# Altium footprint library PcbLib1.PcbLib: 24 footprints (part 1 of 2)
Each footprint in its own frame and in the unit in brackets; x right, y up, seen from the top. Pads: shape width x height; smd on the part's side, far side on the other; paste and mask are expansions set on the pad; w line width, h text height; cw(c..) or ccw(c..) is an arc to the next point about the centre after c.
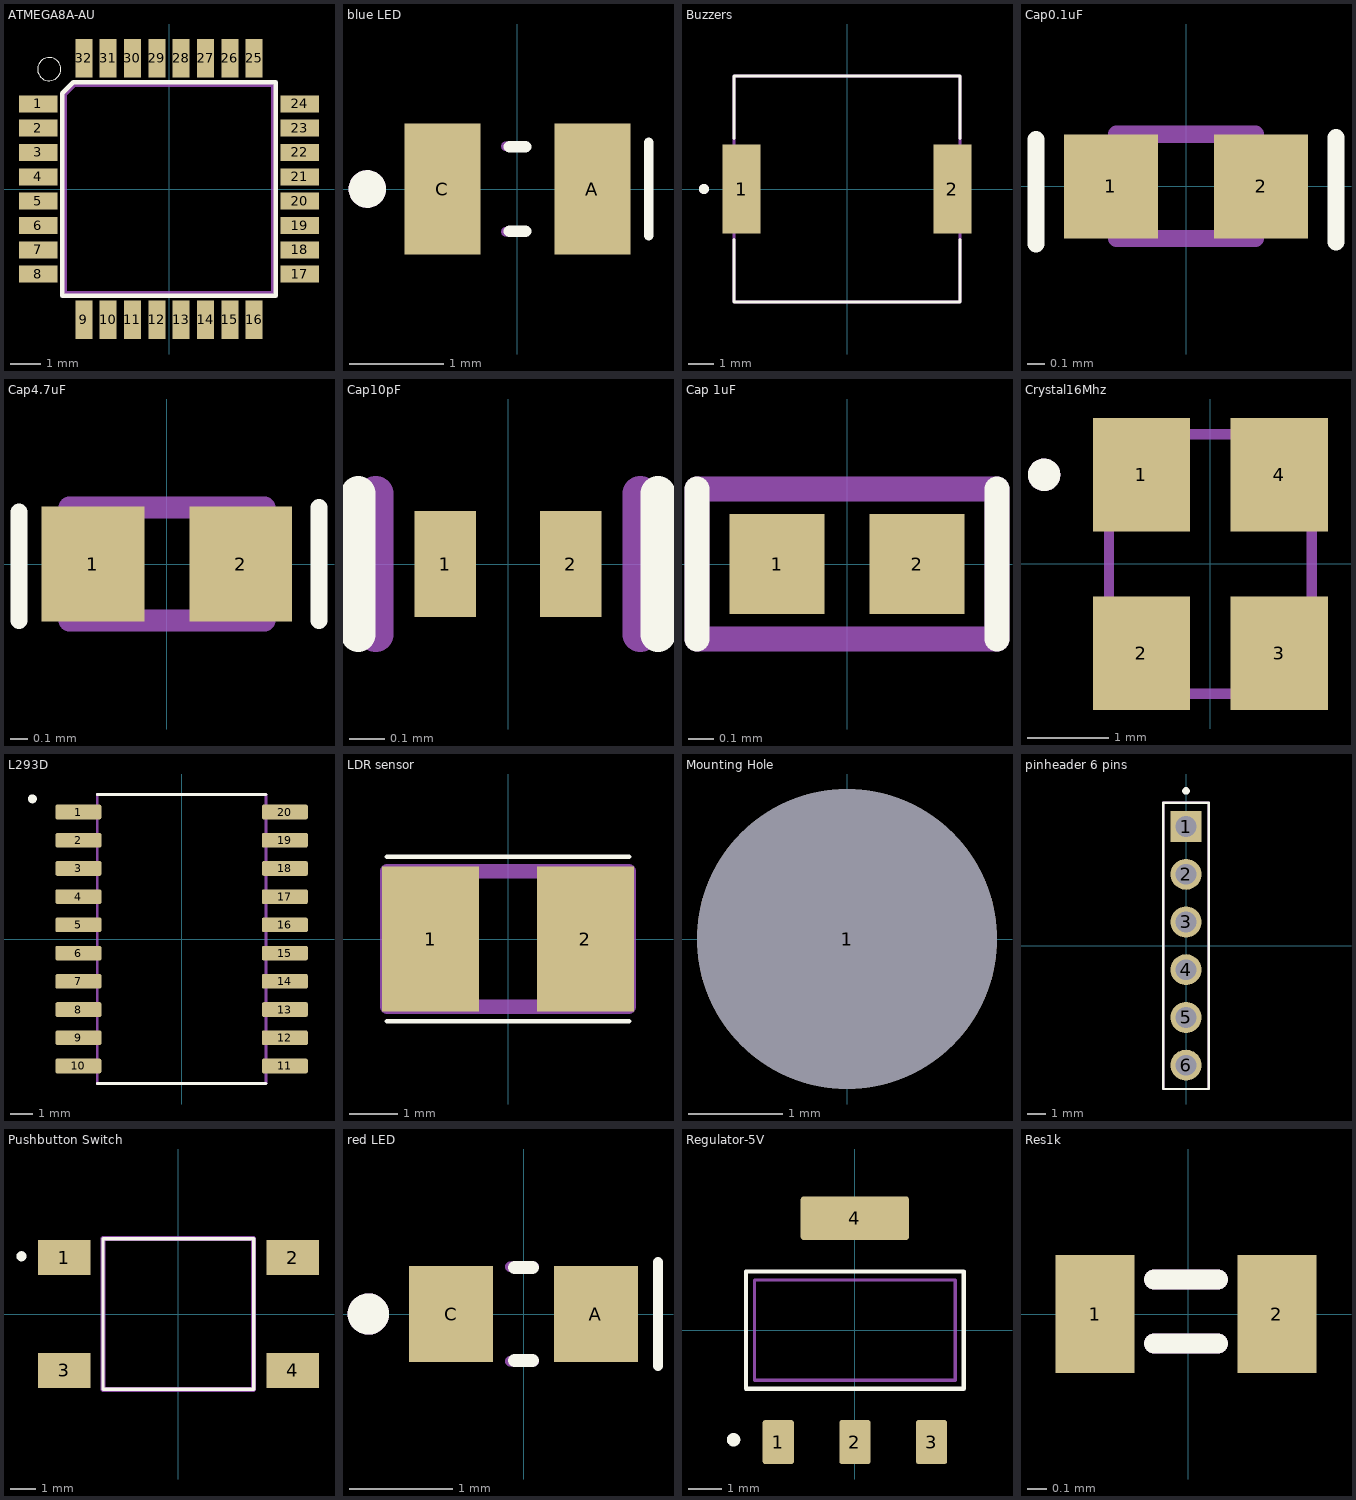
[diagram p0: the footprints below, top view; thin cyan lines are the x and y axes]

## ATMEGA8A-AU [mil] "8KB 1KB FLASH 23 2.7V~5.5V AVR 16MHz TQFP-32(7x7) Microcontrollers (MCU/MPU/SOC) ROHS"
pads (32):
  rect 50x22 smd: 1(-169,110.24) 2(-169,78.74) 3(-169,47.24) 4(-169,15.75) 5(-169,-15.75) 6(-169,-47.24) 7(-169,-78.74) 8(-169,-110.24) 17(169,-110.24) 18(169,-78.74) 19(169,-47.24) 20(169,-15.75) 21(169,15.75) 22(169,47.24) 23(169,78.74) 24(169,110.24)
  rect 22x50 smd: 9(-110.24,-169) 10(-78.74,-169) 11(-47.24,-169) 12(-15.75,-169) 13(15.75,-169) 14(47.24,-169) 15(78.74,-169) 16(110.24,-169) 25(110.24,169) 26(78.74,169) 27(47.24,169) 28(15.75,169) 29(-15.75,169) 30(-47.24,169) 31(-78.74,169) 32(-110.24,169)
Top Overlay:
  circle w0: c-155,155 r15
  lines w6: -137.99,-137.99 137.99,-137.99 137.99,137.99 -124.02,137.99 -137.99,124.02 -137.99,-137.99
  text ".Designator" at -123,208.39 h39.37
Mechanical29 (Mech29):
  lines w3.94: -133.86,-133.86 133.86,-133.86 133.86,133.86 -122.05,133.86 -133.86,122.05 -133.86,-133.86
  text ".Designator" at -96,199.39 h39.37
3D body "ATMEGA8A-AU.STEP": height 47.24, standoff 0, extent -177.17,-177.17 177.17,177.17

## blue LED [mm] "20mA 104mcd Colorless transparent lens -20℃~+80℃ 465nm~475nm Blue 130° 76mW 3.3V 0805 LED Indication - Discrete ROHS"
height 9.78
pads (2):
  rect 0.81x1.397 smd: A(0.8,0) C(-0.8,0)
Top Overlay:
  circle w0.2: c-1.6,0 r0.1
  lines w0.1: 1.4,-0.5 1.4,0.5
  lines w0.127: -0.085,-0.45 0.085,-0.45 ; -0.085,0.45 0.085,0.45
  text ".Designator" at -1.4,1.012 h0.6
Mechanical29 (Mech29):
  circle w0.2: c-1.6,0 r0.1
  lines w0.1: -0.127,-0.457 0.076,-0.457 ; -0.127,0.457 0.076,0.457
  text ".Designator" at -1.1,0.812 h0.6
3D body "blueLED_LTST-C170TBKT.STEP": height 1.1, standoff 0, extent -1,-0.625 1,0.625

## Buzzers [mil] "65dB Passive (external drive) Piezoelectric 4kHz Buzzers ROHS"
height 385.04
pads (2):
  rect 60x140 smd: 1(-165.35,0) 2(165.35,0)
Top Overlay:
  circle w7.87: c-224.41,0 r3.94
  lines w5: -177.17,-79.53 -177.17,-177.17 177.17,-177.17 177.17,-79.53 ; -177.17,79.53 -177.17,177.17 177.17,177.17 177.17,79.53
  text ".Designator" at -169.29,204 h59.06
Mechanical29 (Mech29):
  circle w7.87: c-224.41,0 r3.94
  lines w5: -177.17,-177.17 177.17,-177.17 177.17,177.17 -177.17,177.17 -177.17,-177.17
  text ".Designator" at -137.8,188.25 h59.06
3D body "Buzzers_PKMCS0909E4000-R1--3DModel-STEP-56544.STEP": height 74.8, standoff 0, extent -177.17,-177.17 177.17,177.17

## Cap0.1uF [mm] "50V 100nF X7R ±10% 0402 Multilayer Ceramic Capacitors MLCC - SMD/SMT ROHS"
pads (2):
  rect 0.54x0.6 smd: 1(-0.432,0) 2(0.432,0)
Top Overlay:
  lines w0.1: -0.864,-0.33 -0.864,0.27 ; 0.864,-0.321 0.864,0.279
  text ".Designator" at -0.825,0.569 h0.5
Mechanical29 (Mech29):
  lines w0.1: -0.4,-0.3 -0.4,0.3 0.4,0.3 0.4,-0.3 -0.4,-0.3
  text ".Designator" at -0.7,0.469 h0.5
3D body "step_temp.STEP": height 0.55, standoff 0, extent -0.5,-0.25 0.5,0.25

## Cap4.7uF [mm] "10V 4.7uF X5R ±20% 0402 Multilayer Ceramic Capacitors MLCC - SMD/SMT ROHS"
height 9.78
pads (2):
  rect 0.6x0.67 smd: 1(-0.432,0) 2(0.432,0)
Top Overlay:
  lines w0.1: -0.864,-0.33 -0.864,0.305 ; 0.889,-0.33 0.889,0.33
  text ".Designator" at -0.838,0.603 h0.51
Mechanical29 (Mech29):
  lines w0.127: -0.57,-0.33 -0.57,0.33 0.57,0.33 0.57,-0.33 -0.57,-0.33
  text ".Designator" at -0.57,0.425 h0.51
3D body "Cap4.7uF_GRM155R61A475MEAAD.STEP": height 0.65, standoff 0, extent -0.5,-0.25 0.5,0.25

## Cap10pF [mm] "16V 10pF null ±5% 01005 Multilayer Ceramic Capacitors MLCC - SMD/SMT ROHS"
pads (2):
  rect 0.175x0.3 smd mask+0.038: 1(-0.178,0) 2(0.178,0)
Top Overlay:
  lines w0.1: -0.425,-0.2 -0.425,0.2 ; 0.425,-0.2 0.425,0.2
  text ".Designator" at -0.475,0.394 h0.5
Mechanical29 (Mech29):
  lines w0.1: -0.375,-0.2 -0.375,0.2 ; 0.375,-0.2 0.375,0.2
  text ".Designator" at -0.3,0.294 h0.5
3D body "Cap10pF_GRM0225C1C100JA03L.STEP": height 0.22, standoff 0, extent -0.2,-0.1 0.2,0.1

## Cap 1uF [mm] "10V 1uF X5R ±20% 0201 Multilayer Ceramic Capacitors MLCC - SMD/SMT ROHS"
height 9.78
pads (2):
  rect 0.38x0.4 smd: 1(-0.28,0) 2(0.28,0)
Top Overlay:
  lines w0.1: -0.6,-0.3 -0.6,0.3 ; 0.6,-0.3 0.6,0.3
  text ".Designator" at -0.635,0.603 h0.51
Mechanical29 (Mech29):
  lines w0.1: -0.6,-0.3 -0.6,0.3 0.6,0.3 0.6,-0.3 -0.6,-0.3
  text ".Designator" at -0.6,0.395 h0.51
3D body "Cap1uF_GRM033R61A105ME44D.STEP": height 0.35, standoff 0, extent -0.3,-0.15 0.3,0.15

## Crystal16Mhz [mm] "1.8V~3.3V ±10ppm ±20ppm CMOS 16MHz SMD3225-4P Crystal Oscillators ROHS"
pads (4):
  rect 1.2x1.4 smd: 1(-0.85,1.1) 2(-0.85,-1.1) 3(0.85,-1.1) 4(0.85,1.1)
Top Overlay:
  circle w0.2: c-2.05,1.1 r0.1
  text ".Designator" at -1.425,2.169 h0.5
Mechanical29 (Mech29):
  circle w0.2: c-2.05,1.1 r0.1
  lines w0.127: -1.25,-1.6 -1.25,1.6 1.25,1.6 1.25,-1.6 -1.25,-1.6
  text ".Designator" at -1.295,1.999 h0.5
3D body "crystal16Mhz_X322516MLB4SI--3DModel-STEP-269445.STEP": height 0.8, standoff 0, extent -1.25,-1.6 1.25,1.6

## L293D [mm] "SOIC-20-300mil Stepper Motor Driver ROHS"
height 9.78
pads (20):
  rrect25% 2.07x0.66 smd: 1(-4.645,5.715) 2(-4.645,4.445) 3(-4.645,3.175) 4(-4.645,1.905) 5(-4.645,0.635) 6(-4.645,-0.635) 7(-4.645,-1.905) 8(-4.645,-3.175) 9(-4.645,-4.445) 10(-4.645,-5.715) 11(4.645,-5.715) 12(4.645,-4.445) 13(4.645,-3.175) 14(4.645,-1.905) 15(4.645,-0.635) 16(4.645,0.635) 17(4.645,1.905) 18(4.645,3.175) 19(4.645,4.445) 20(4.645,5.715)
Top Overlay:
  circle w0.2: c-6.715,6.305 r0.1
  lines w0.127: -3.8,-6.5 3.8,-6.5 ; -3.8,6.5 3.8,6.5
  text ".Designator" at -3.9,7.782 h1.5
Mechanical29 (Mech29):
  lines w0.127: -3.8,-6.5 -3.8,6.5 3.8,6.5 3.8,-6.5 -3.8,-6.5
  text ".Designator" at -3.505,6.86 h1.5
3D body "SO-20_STM.step": height 2.64, standoff 0, extent -5.321,-6.502 5.321,6.502

## LDR sensor [mm] "SMD,2.4x3.6mm Photoresistors ROHS"
pads (2):
  rect 2x3 smd: 1(-1.6,0) 2(1.6,0)
Top Overlay:
  lines w0.1: -2.5,-1.7 2.5,-1.7 ; -2.5,1.7 2.5,1.7
  text ".Designator" at -2.3,2.095 h0.51
Mechanical29 (Mech29):
  lines w0.3: -2.5,-1.4 2.5,-1.4 2.5,1.4 -2.5,1.4 -2.5,-1.4
  text ".Designator" at -1.9,1.895 h0.51
3D body "GT36528_JCH.step": height 0.66, standoff 0, extent -1.905,-1.295 1.905,1.295

## Mounting Hole [mm] "mounting hole 3.2mm inner diameter and 5.6mm outer"
pads (1):
  round 3.2 hole 3.2 paste-2539.97 mask-2539.97: 1(0,0)
Top Solder:
  lines w0.559: -0.356,0 0.356,0
Bottom Solder:
  lines w0.559: -0.356,0 0.356,0

## pinheader 6 pins [mm] "3A Direct Insert Policy 2.54mm 6P 5.84mm -65℃~+125℃ 3.05mm 2.54mm Single Row Phosphor Bronze Black Plugin,P=2.54mm Pin Headers ROHS"
height 8.58
pads (6):
  rect 1.65x1.65 / inner round 1.65 / far side rect 1.65x1.65 hole 1.1: 1(0,6.35)
  round 1.65 hole 1.1: 2(0,3.81) 3(0,1.27) 4(0,-1.27) 5(0,-3.81) 6(0,-6.35)
Top Overlay:
  circle w0.2: c0,8.25 r0.1
  lines w0.127: -1.205,-7.62 -1.205,7.62 1.205,7.62 1.205,-7.62 -1.205,-7.62
  text ".Designator" at -1.2,8.888 h1
Mechanical29 (Mech29):
  lines w0.127: -1.205,-7.62 -1.205,7.62 1.205,7.62 1.205,-7.62 -1.205,-7.62
  text ".Designator" at -0.7,8.388 h1
3D body "step_temp.STEP": height 8.38, standoff -3.05, extent -1.205,-7.62 1.205,7.62

## Pushbutton Switch [mm] "6mm 5mm Round Button 50mA Standing paste 6mm SPST 24V SMD Tactile Switches ROHS"
height 0.5
pads (4):
  rect 2.1x1.4 smd: 1(-4.55,2.25) 2(4.55,2.25) 3(-4.55,-2.25) 4(4.55,-2.25)
Top Overlay:
  circle w0.2: c-6.25,2.3 r0.1
  lines w0.127: -3,-3 3,-3 3,3 -3,3 -3,-3
  text ".Designator" at -2.9,3.688 h1
Mechanical29 (Mech29):
  lines w0.2: -3,-3 3,-3 3,3 -3,3 -3,-3
  text ".Designator" at -2.4,3.288 h1
3D body "pushbuttonSwitch_ul_FSM4JSMATR.stp": height 5.07, standoff 0, extent -5,-3 5,3

## red LED [mm] "20mA 99mcd Colorless transparent lens -30℃~+85℃ 631nm Red 130° 62.5mW 2V 0603 LED Indication - Discrete ROHS"
height 9.78
pads (2):
  rect 0.81x0.93 smd: A(0.7,0) C(-0.7,0)
Top Overlay:
  circle w0.2: c-1.5,0 r0.1
  lines w0.1: 1.3,-0.5 1.3,0.5
  lines w0.127: -0.085,-0.45 0.085,-0.45 ; -0.085,0.45 0.085,0.45
  text ".Designator" at -1.4,0.812 h0.6
Mechanical29 (Mech29):
  circle w0.2: c-1.5,0 r0.1
  lines w0.1: -0.127,-0.457 0.102,-0.457 ; -0.127,0.457 0.102,0.457
  text ".Designator" at -1.1,0.712 h0.6
3D body "redLED_LTST-C190KRKT--3DModel-STEP-269445.STEP": height 0.8, standoff 0, extent -0.8,-0.4 0.8,0.4

## Regulator-5V [mm] "1A 60dB@(120Hz) Fixed 5V Positive electrode 12V SOT-223 Voltage Regulators - Linear, Low Drop Out (LDO) Regulators ROHS"
height 1.8
pads (4):
  rrect15% 0.93x1.31 smd: 1(-2.29,-3.345) 2(0,-3.345) 3(2.29,-3.345)
  rrect15% 3.24x1.31 smd: 4(0,3.345)
Top Overlay:
  circle w0.2: c-3.625,-3.275 r0.1
  lines w0.127: -3.253,-1.753 -3.253,1.753 3.253,1.753 3.253,-1.753 -3.253,-1.753
  text ".Designator" at -2.925,4.463 h1
Mechanical29 (Mech29):
  lines w0.1: -3,-1.5 3,-1.5 3,1.5 -3,1.5 -3,-1.5
  text ".Designator" at -2.413,4.15 h1
3D body "Regulator.STEP": height 1.8, standoff 0, extent -3.277,-3.524 3.226,3.473

## Res1k [mm] "100mW Thick Film Resistors ±100ppm/℃ ±1% 1kΩ 0402 Chip Resistor - Surface Mount ROHS"
pads (2):
  rect 0.4x0.6 smd: 1(-0.475,0) 2(0.45,0)
Top Overlay:
  lines w0.1: -0.175,-0.15 0.15,-0.15 ; -0.175,0.175 0.15,0.175
  text ".Designator" at -0.875,0.512 h0.6
Mechanical29 (Mech29):
  lines w0.1: -0.175,-0.15 0.15,-0.15 ; -0.175,0.175 0.15,0.175
  text ".Designator" at -0.575,0.419 h0.5
3D body "Res1kO_ERJ2RKF1001X.STEP": height 0.35, standoff 0, extent -0.5,-0.25 0.5,0.25